# Altium integrated library Xilinx XC17V00.IntLib: 26 symbols (part 2 of 2)
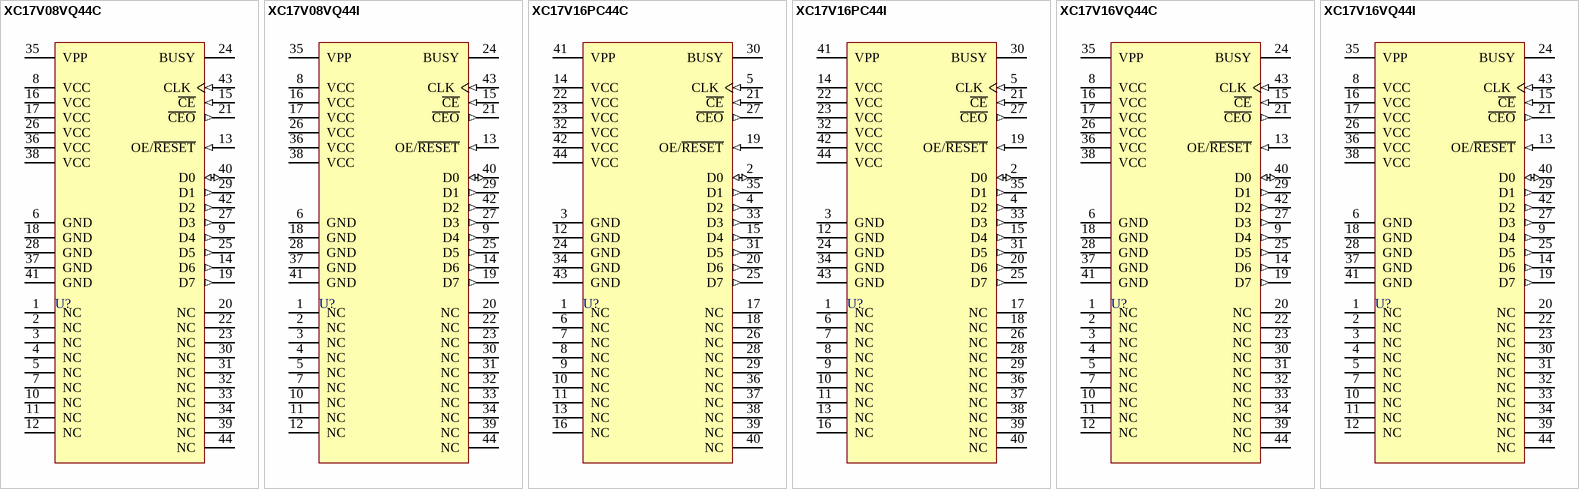
[diagram p2: symbols XC17V08VQ44C to XC17V16VQ44I]

## XC17V16PC44I
designator U?
XC17V00 Series, One-Time Programmable Configuration 3.3V PROM, 44-Pin PLCC, 16 Mb Density, Industrial Grade; Published: 17-Dec-2003; LatestRevisionDate: 13-Apr-2006; LatestRevisionNote: IPC-7351 Footprint Added.; DatasheetVersion: ver1.10, Apr-2002; PackageVersion: ver1.2, Jun-2004; PackageReference: PC44; Publisher: Altium Limited; PackageDescription: 44-Pin Plastic Leaded Chip Carrier (PC44); Code_JEDEC: MS-047; Code_IPC: PLCC-44; ComponentLink1Description: Manufacturer Link; ComponentLink1URL: http://www.xilinx.com/products/design_resources/config_sol/index.htm; ComponentLink2Description: Datasheet; ComponentLink2URL: http://direct.xilinx.com/bvdocs/publications/ds073.pdf
footprint PC44_N (Leaded Chip Carrier, 44-Leads, Body 16.6x16.6mm, Pitch 1.27mm, IPC Medium Density)
footprint PC44_L (Leaded Chip Carrier, 44-Leads, Body 16.6x16.6mm, Pitch 1.27mm, IPC High Density)
footprint PC44_M (Leaded Chip Carrier, 44-Leads, Body 16.6x16.6mm, Pitch 1.27mm, IPC Low Density)
3D model XC17V16-PC44 (44-Pin Plastic Leaded Chip Carrier (PC44))
pins: 1 NC "No Connect", 2 D0 (io) "Data Output pin for configuring a Xilinx FPGA in serial mode.", 3 GND (power) "Ground.", 4 D2 (out) "Data Output pin for configuring a Xilinx FPGA in Slave-Parallel/SelectMap mode.", 5 CLK (in) "Configuration Clock Input.", 6 NC "No Connect", 7 NC "No Connect", 8 NC "No Connect", 9 NC "No Connect", 10 NC "No Connect", 11 NC "No Connect", 12 GND (power) "Ground.", 13 NC "No Connect", 14 VCC (power) "Positive Supply.", 15 D4 (out) "Data Output pin for configuring a Xilinx FPGA in Slave-Parallel/SelectMap mode.", 16 NC "No Connect", 17 NC "No Connect", 18 NC "No Connect", 19 OE/~{RESET} (in) "Output Enable/Reset.", 20 D6 (out) "Data Output pin for configuring a Xilinx FPGA in Slave-Parallel/SelectMap mode.", 21 ~{CE} (in) "Chip Enable Input.", 22 VCC (power) "Positive Supply.", 23 VCC (power) "Positive Supply.", 24 GND (power) "Ground", 25 D7 (out) "Data Output pin for configuring a Xilinx FPGA in Slave-Parallel/SelectMap mode.", 26 NC "No Connect", 27 ~{CEO} (out) "Chip Enable Output, connects to the CE input of the next PROM in the chain.", 28 NC "No Connect", 29 NC "No Connect", 30 BUSY "Hold/Resume Output Data", 31 D5 (out) "Data Output pin for configuring a Xilinx FPGA in Slave-Parallel/SelectMap mode.", 32 VCC (power) "Positive Supply.", 33 D3 (out) "Data Output pin for configuring a Xilinx FPGA in Slave-Parallel/SelectMap mode.", 34 GND (power) "Ground.", 35 D1 (out) "Data Output pin for configuring a Xilinx FPGA in Slave-Parallel/SelectMap mode.", 36 NC "No Connect", 37 NC "No Connect", 38 NC "No Connect", 39 NC "No Connect", 40 NC "No Connect", 41 VPP (power) "Programming Voltage.  Do not leave VPP floating!", 42 VCC (power) "Positive Supply.", 43 GND (power) "Ground.", 44 VCC (power) "Positive Supply."

## XC17V16VQ44C
designator U?
XC17V00 Series, One-Time Programmable Configuration 3.3V PROM, 44-Pin VQFP, 16 Mb Density, Commercial Grade; Published: 17-Dec-2003; LatestRevisionDate: 13-Apr-2006; LatestRevisionNote: IPC-7351 Footprint Added.; DatasheetVersion: ver1.10, Apr-2002; PackageVersion: ver1.2, Jun-2004; PackageReference: VQ44; Publisher: Altium Limited; PackageDescription: 44-Pin Very Thin Quad Flat Pack (VQ44); Code_JEDEC: MS-026-ACB; ComponentLink1Description: Manufacturer Link; ComponentLink1URL: http://www.xilinx.com/products/design_resources/config_sol/index.htm; ComponentLink2Description: Datasheet; ComponentLink2URL: http://direct.xilinx.com/bvdocs/publications/ds073.pdf
footprint VQ44_N (Thin QFP, 44-Leads, Body 10x10mm, Pitch 0.8mm, IPC Medium Density)
footprint VQ44_L (Thin QFP, 44-Leads, Body 10x10mm, Pitch 0.8mm, IPC High Density)
footprint VQ44_M (Thin QFP, 44-Leads, Body 10x10mm, Pitch 0.8mm, IPC Low Density)
3D model XC17V16-VQ44 (44-Pin Very Thin Quad Flat Pack (VQ44))
pins: 1 NC "No Connect", 2 NC "No Connect", 3 NC "No Connect", 4 NC "No Connect", 5 NC "No Connect", 6 GND (power) "Ground.", 7 NC "No Connect", 8 VCC (power) "Positive Supply.", 9 D4 (out) "Data Output pin for configuring a Xilinx FPGA in Slave-Parallel/SelectMap mode.", 10 NC "No Connect", 11 NC "No Connect", 12 NC "No Connect", 13 OE/~{RESET} (in) "Output Enable/Reset.", 14 D6 (out) "Data Output pin for configuring a Xilinx FPGA in Slave-Parallel/SelectMap mode.", 15 ~{CE} (in) "Chip Enable Input.", 16 VCC (power) "Positive Supply.", 17 VCC (power) "Positive Supply.", 18 GND (power) "Ground.", 19 D7 (out) "Data Output pin for configuring a Xilinx FPGA in Slave-Parallel/SelectMap mode.", 20 NC "No Connect", 21 ~{CEO} (out) "Chip Enable Output, connects to the CE input of the next PROM in the chain.", 22 NC "No Connect", 23 NC "No Connect", 24 BUSY "Hold/Resume Output Data", 25 D5 (out) "Data Output pin for configuring a Xilinx FPGA in Slave-Parallel/SelectMap mode.", 26 VCC (power) "Positive Supply.", 27 D3 (out) "Data Output pin for configuring a Xilinx FPGA in Slave-Parallel/SelectMap mode.", 28 GND (power) "Ground", 29 D1 (out) "Data Output pin for configuring a Xilinx FPGA in Slave-Parallel/SelectMap mode.", 30 NC "No Connect", 31 NC "No Connect", 32 NC "No Connect", 33 NC "No Connect", 34 NC "No Connect", 35 VPP (power) "Programming Voltage.  Do not leave VPP floating!", 36 VCC (power) "Positive Supply.", 37 GND (power) "Ground.", 38 VCC (power) "Positive Supply.", 39 NC "No Connect", 40 D0 (io) "Data Output pin for configuring a Xilinx FPGA in serial mode.", 41 GND (power) "Ground.", 42 D2 (out) "Data Output pin for configuring a Xilinx FPGA in Slave-Parallel/SelectMap mode.", 43 CLK (in) "Configuration Clock Input.", 44 NC "No Connect"

## XC17V16VQ44I
designator U?
XC17V00 Series, One-Time Programmable Configuration 3.3V PROM, 44-Pin VQFP, 16 Mb Density, Industrial Grade; Published: 17-Dec-2003; LatestRevisionDate: 13-Apr-2006; LatestRevisionNote: IPC-7351 Footprint Added.; DatasheetVersion: ver1.10, Apr-2002; PackageVersion: ver1.2, Jun-2004; PackageReference: VQ44; Publisher: Altium Limited; PackageDescription: 44-Pin Very Thin Quad Flat Pack (VQ44); Code_JEDEC: MS-026-ACB; ComponentLink1Description: Manufacturer Link; ComponentLink1URL: http://www.xilinx.com/products/design_resources/config_sol/index.htm; ComponentLink2Description: Datasheet; ComponentLink2URL: http://direct.xilinx.com/bvdocs/publications/ds073.pdf
footprint VQ44_N (Thin QFP, 44-Leads, Body 10x10mm, Pitch 0.8mm, IPC Medium Density)
footprint VQ44_L (Thin QFP, 44-Leads, Body 10x10mm, Pitch 0.8mm, IPC High Density)
footprint VQ44_M (Thin QFP, 44-Leads, Body 10x10mm, Pitch 0.8mm, IPC Low Density)
3D model XC17V16-VQ44 (44-Pin Very Thin Quad Flat Pack (VQ44))
pins: 1 NC "No Connect", 2 NC "No Connect", 3 NC "No Connect", 4 NC "No Connect", 5 NC "No Connect", 6 GND (power) "Ground.", 7 NC "No Connect", 8 VCC (power) "Positive Supply.", 9 D4 (out) "Data Output pin for configuring a Xilinx FPGA in Slave-Parallel/SelectMap mode.", 10 NC "No Connect", 11 NC "No Connect", 12 NC "No Connect", 13 OE/~{RESET} (in) "Output Enable/Reset.", 14 D6 (out) "Data Output pin for configuring a Xilinx FPGA in Slave-Parallel/SelectMap mode.", 15 ~{CE} (in) "Chip Enable Input.", 16 VCC (power) "Positive Supply.", 17 VCC (power) "Positive Supply.", 18 GND (power) "Ground.", 19 D7 (out) "Data Output pin for configuring a Xilinx FPGA in Slave-Parallel/SelectMap mode.", 20 NC "No Connect", 21 ~{CEO} (out) "Chip Enable Output, connects to the CE input of the next PROM in the chain.", 22 NC "No Connect", 23 NC "No Connect", 24 BUSY "Hold/Resume Output Data", 25 D5 (out) "Data Output pin for configuring a Xilinx FPGA in Slave-Parallel/SelectMap mode.", 26 VCC (power) "Positive Supply.", 27 D3 (out) "Data Output pin for configuring a Xilinx FPGA in Slave-Parallel/SelectMap mode.", 28 GND (power) "Ground", 29 D1 (out) "Data Output pin for configuring a Xilinx FPGA in Slave-Parallel/SelectMap mode.", 30 NC "No Connect", 31 NC "No Connect", 32 NC "No Connect", 33 NC "No Connect", 34 NC "No Connect", 35 VPP (power) "Programming Voltage.  Do not leave VPP floating!", 36 VCC (power) "Positive Supply.", 37 GND (power) "Ground.", 38 VCC (power) "Positive Supply.", 39 NC "No Connect", 40 D0 (io) "Data Output pin for configuring a Xilinx FPGA in serial mode.", 41 GND (power) "Ground.", 42 D2 (out) "Data Output pin for configuring a Xilinx FPGA in Slave-Parallel/SelectMap mode.", 43 CLK (in) "Configuration Clock Input.", 44 NC "No Connect"